# Altium footprint library modulation_tx.PcbLib: 10 footprints
Each footprint in its own frame and in the unit in brackets; x right, y up, seen from the top. Pads: shape width x height; smd on the part's side, far side on the other; paste and mask are expansions set on the pad; w line width, h text height; cw(c..) or ccw(c..) is an arc to the next point about the centre after c.
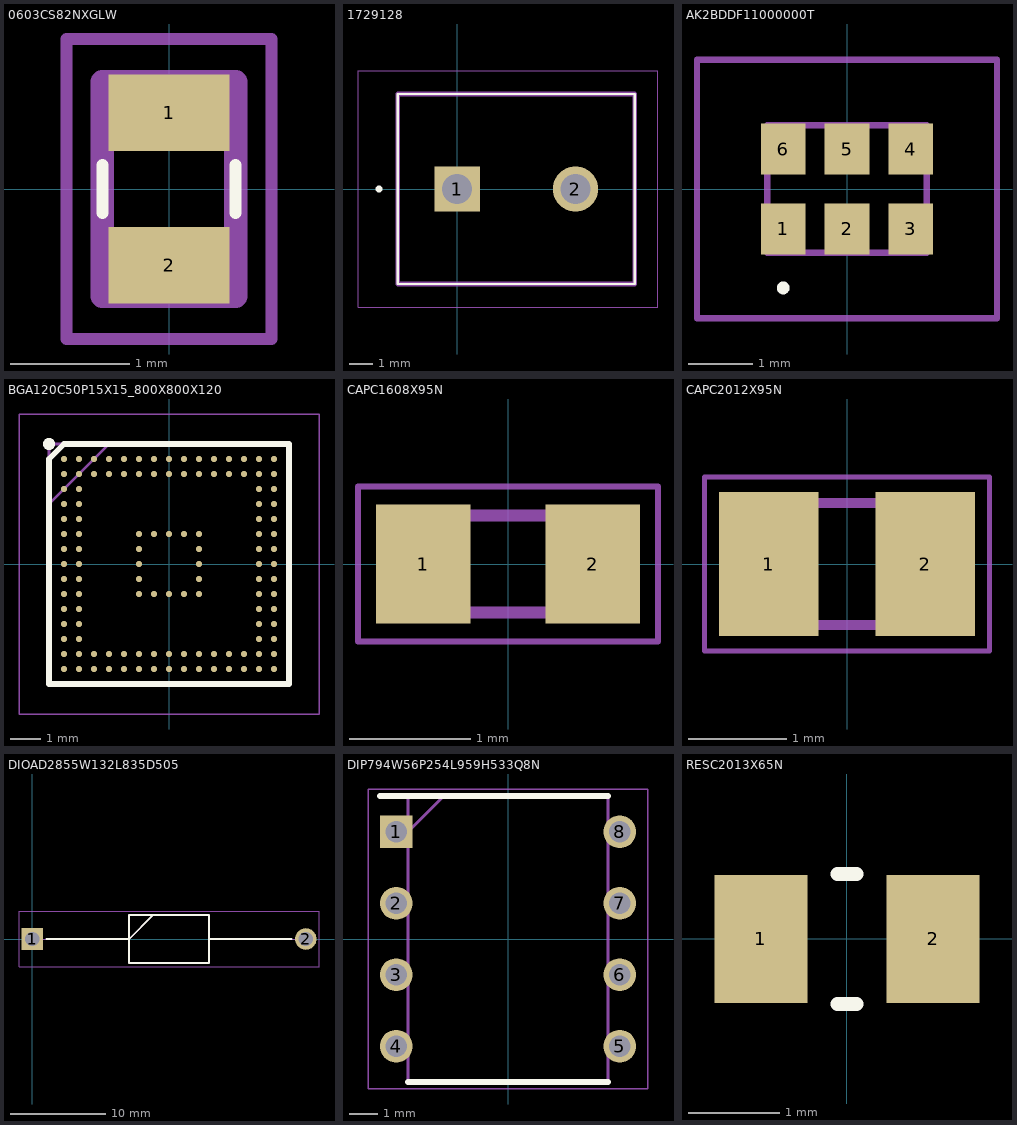
[diagram p0: the footprints below, top view; thin cyan lines are the x and y axes]

## 0603CS82NXGLW [mm]
pads (2):
  rect 1.02x0.64 smd: 1(0,0.64) 2(0,-0.64)
Top Overlay:
  lines w0.1: -0.56,-0.2 -0.56,0.2 ; 0.56,-0.2 0.56,0.2
Mechanical 13:
  lines w0.2: -0.56,-0.9 -0.56,0.9 0.56,0.9 0.56,-0.9 -0.56,-0.9
Mechanical 15:
  lines w0.1: -0.86,-1.26 -0.86,1.26 0.86,1.26 0.86,-1.26 -0.86,-1.26
3D body "0603CS-R25XGLU.stp": height 1.02, standoff 0, extent -0.56,-0.9 0.56,0.9

## 1729128 [mm]
pads (2):
  rect 1.95x1.95 hole 1.3: 1(0,0)
  round 1.95 hole 1.3: 2(5.08,0)
Top Overlay:
  circle w0.2: c-3.35,0 r0.05
  lines w0.1: -2.54,-4.075 7.62,-4.075 7.62,4.075 -2.54,4.075 -2.54,-4.075
Mechanical 13:
  lines w0.2: -2.54,-4.075 7.62,-4.075 7.62,4.075 -2.54,4.075 -2.54,-4.075
Mechanical 15:
  lines w0.05: -4.25,-5.075 8.62,-5.075 8.62,5.075 -4.25,5.075 -4.25,-5.075
3D body "1729128.stp": height 10.32, standoff -3.18, extent -2.82,-4.05 7.74,4.05

## AK2BDDF11000000T [mm]
pads (6):
  rect 0.7x0.8 smd: 1(-1,-0.625) 2(0,-0.625) 3(1,-0.625) 4(1,0.625) 5(0,0.625) 6(-1,0.625)
Top Overlay:
  lines w0.1: -1,-1.6 ccw(c-1,-1.55) -1,-1.5 ccw(c-1,-1.55) -1,-1.6
Mechanical 13:
  lines w0.1: -1.25,-1 -1.25,1 1.25,1 1.25,-1 -1.25,-1
Mechanical 15:
  lines w0.1: -2.35,-2.025 -2.35,2.025 2.35,2.025 2.35,-2.025 -2.35,-2.025
3D body "AK2BDDF1-100.0000T.stp": height 1, standoff 0, extent -1.25,-1 1.25,1

## BGA120C50P15X15_800X800X120 [mm]
pads (120):
  round 0.2 smd: A1(-3.5,3.5) A2(-3,3.5) A3(-2.5,3.5) A4(-2,3.5) A5(-1.5,3.5) A6(-1,3.5) A7(-0.5,3.5) A8(0,3.5) A9(0.5,3.5) A10(1,3.5) A11(1.5,3.5) A12(2,3.5) A13(2.5,3.5) A14(3,3.5) A15(3.5,3.5) B1(-3.5,3) B2(-3,3) B3(-2.5,3) B4(-2,3) B5(-1.5,3) B6(-1,3) B7(-0.5,3) B8(0,3) B9(0.5,3) B10(1,3) B11(1.5,3) B12(2,3) B13(2.5,3) B14(3,3) B15(3.5,3) C1(-3.5,2.5) C2(-3,2.5) C14(3,2.5) C15(3.5,2.5) D1(-3.5,2) D2(-3,2) D14(3,2) D15(3.5,2) E1(-3.5,1.5) E2(-3,1.5) E14(3,1.5) E15(3.5,1.5) F1(-3.5,1) F2(-3,1) F6(-1,1) F7(-0.5,1) F8(0,1) F9(0.5,1) F10(1,1) F14(3,1) F15(3.5,1) G1(-3.5,0.5) G2(-3,0.5) G6(-1,0.5) G10(1,0.5) G14(3,0.5) G15(3.5,0.5) H1(-3.5,0) H2(-3,0) H6(-1,0) H10(1,0) H14(3,0) H15(3.5,0) J1(-3.5,-0.5) J2(-3,-0.5) J6(-1,-0.5) J10(1,-0.5) J14(3,-0.5) J15(3.5,-0.5) K1(-3.5,-1) K2(-3,-1) K6(-1,-1) K7(-0.5,-1) K8(0,-1) K9(0.5,-1) K10(1,-1) K14(3,-1) K15(3.5,-1) L1(-3.5,-1.5) L2(-3,-1.5) L14(3,-1.5) L15(3.5,-1.5) M1(-3.5,-2) M2(-3,-2) M14(3,-2) M15(3.5,-2) N1(-3.5,-2.5) N2(-3,-2.5) N14(3,-2.5) N15(3.5,-2.5) P1(-3.5,-3) P2(-3,-3) P3(-2.5,-3) P4(-2,-3) P5(-1.5,-3) P6(-1,-3) P7(-0.5,-3) P8(0,-3) P9(0.5,-3) P10(1,-3) P11(1.5,-3) P12(2,-3) P13(2.5,-3) P14(3,-3) P15(3.5,-3) R1(-3.5,-3.5) R2(-3,-3.5) R3(-2.5,-3.5) R4(-2,-3.5) R5(-1.5,-3.5) R6(-1,-3.5) R7(-0.5,-3.5) R8(0,-3.5) R9(0.5,-3.5) R10(1,-3.5) R11(1.5,-3.5) R12(2,-3.5) R13(2.5,-3.5) R14(3,-3.5) R15(3.5,-3.5)
Top Overlay:
  circle w0.2: c-4,4 r0.1
  lines w0.2: -4,-4 -4,3.5 -3.5,4 4,4 4,-4 -4,-4
Mechanical 13:
  lines w0.1: -4,2 -2,4 ; -4,-4 -4,4 4,4 4,-4 -4,-4
Mechanical 15:
  lines w0.05: -5,-5 -5,5 5,5 5,-5 -5,-5
3D body "ATSAMD51P19A-CTZT.stp": height 1.2, standoff 0, extent -4,-4 4,4

## CAPC1608X95N [mm]
pads (2):
  rect 0.78x0.98 smd: 1(-0.7,0) 2(0.7,0)
Mechanical 13:
  lines w0.1: -0.8,-0.4 -0.8,0.4 0.8,0.4 0.8,-0.4 -0.8,-0.4
Mechanical 15:
  lines w0.05: -1.24,-0.64 -1.24,0.64 1.24,0.64 1.24,-0.64 -1.24,-0.64
3D body "C0603C104K5RACTU7042.stp": height 0.87, standoff 0, extent -0.87,-0.48 0.88,0.47

## CAPC2012X95N [mm]
pads (2):
  rect 1.02x1.47 smd: 1(-0.8,0) 2(0.8,0)
Mechanical 13:
  lines w0.1: -1,-0.625 -1,0.625 1,0.625 1,-0.625 -1,-0.625
Mechanical 15:
  lines w0.05: -1.46,-0.89 -1.46,0.89 1.46,0.89 1.46,-0.89 -1.46,-0.89
3D body "CC0805KRX7R7BB104.stp": height 0.95, standoff 0, extent -1,-0.625 1,0.625

## DIOAD2855W132L835D505 [mm]
pads (2):
  rect 2.25x2.25 hole 1.5: 1(0,0)
  round 2.25 hole 1.5: 2(28.6,0)
Top Overlay:
  lines w0.2: 1.475,0 10.125,0 12.65,2.525 ; 18.475,0 27.125,0 ; 10.125,-2.525 10.125,2.525 18.475,2.525 18.475,-2.525 10.125,-2.525
Mechanical 13:
  lines w0.1: 0,0 10.125,0 12.65,2.525 ; 18.475,0 28.6,0 ; 10.125,-2.525 10.125,2.525 18.475,2.525 18.475,-2.525 10.125,-2.525
Mechanical 15:
  lines w0.05: -1.375,-2.875 -1.375,2.875 29.975,2.875 29.975,-2.875 -1.375,-2.875
3D body "1N5408-E3_54.stp": height 5.29, standoff -5.3, extent -0.66,-2.647 29.21,2.647

## DIP794W56P254L959H533Q8N [mm]
pads (8):
  rect 1.16x1.16 hole 0.76: 1(-3.97,3.81)
  round 1.16 hole 0.76: 2(-3.97,1.27) 3(-3.97,-1.27) 4(-3.97,-3.81) 5(3.97,-3.81) 6(3.97,-1.27) 7(3.97,1.27) 8(3.97,3.81)
Top Overlay:
  lines w0.2: -4.55,5.08 3.555,5.08 ; -3.555,-5.08 3.555,-5.08
Mechanical 13:
  lines w0.1: -3.555,3.81 -2.285,5.08 ; -3.555,-5.08 3.555,-5.08 3.555,5.08 -3.555,5.08 -3.555,-5.08
Mechanical 15:
  lines w0.05: -4.96,-5.33 4.96,-5.33 4.96,5.33 -4.96,5.33 -4.96,-5.33
3D body "AD633JNZ.stp": height 5.33, standoff -3.5, extent -4.11,-4.795 4.11,4.795

## PCBComponent_1 [mm]

## RESC2013X65N [mil]
pads (2):
  rect 40x55 smd: 1(-37,0) 2(37,0)
Top Overlay:
  lines w6: -4,-28 4,-28 ; -4,28 4,28
3D body "PNM0805E5002BST5.stp": height 13.98, standoff 0, extent -39.96,-25 39.96,25